# Altium schematic symbol library LM7805CT.SchLib: 1 symbol
Pins are listed as number, name and electrical type; pins without a type are passive.

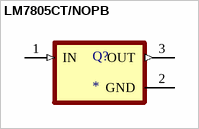
[diagram p0: symbol LM7805CT/NOPB]

## LM7805CT/NOPB
designator Q?
Standard Regulator Pos 5V 1A 3-Pin(3+Tab) TO-220 Rail; MP: LM7805CT/NOPB; MF: {'manufacturer': u'ON Semiconductor'}; Availability: Unavailable; Value: *; Price: None; Package: None
footprint TO254P1054X470X2600-3
pins: 1 IN (in), 2 GND (power), 3 OUT (out)